# Altium schematic symbol library CONN2x9.Schlib: 1 symbol
Pins are listed as number, name and electrical type; pins without a type are passive.

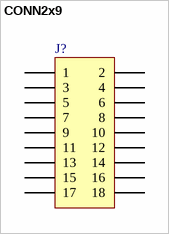
[diagram p0: symbol CONN2x9]

## CONN2x9
designator J?
Connector, 7-Pin, Dual row
signal-integrity model Connector
pins: 1, 2, 3, 4, 5, 6, 7, 8, 9, 10, 11, 12, 13, 14, 15, 16, 17, 18
1 alternate drawing of the same symbol